# Altium footprint library ORWH-SH-112D,N000-TERelay.PcbLib: 1 footprints
Each footprint in its own frame and in the unit in brackets; x right, y up, seen from the top. Pads: shape width x height; smd on the part's side, far side on the other; paste and mask are expansions set on the pad; w line width, h text height; cw(c..) or ccw(c..) is an arc to the next point about the centre after c.
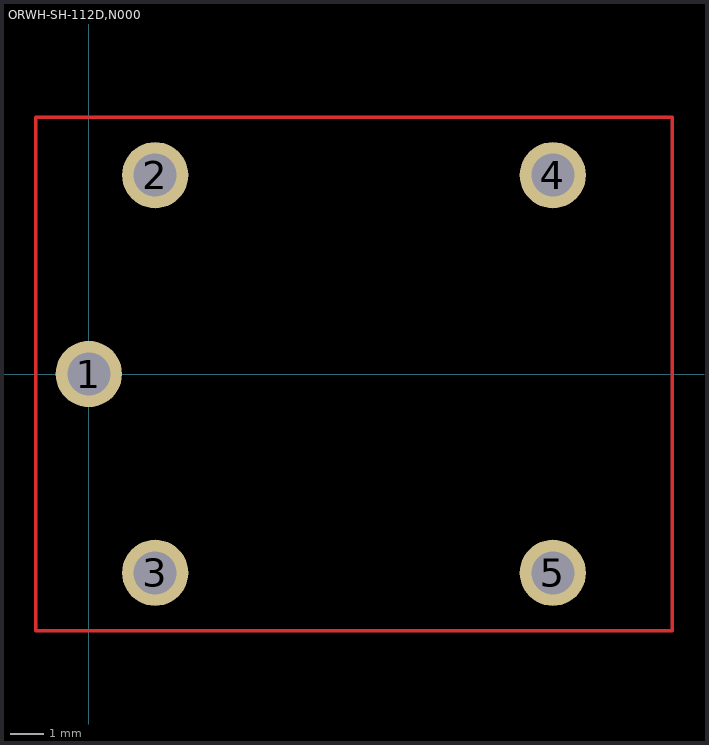
[diagram p0: the footprint, top view; thin cyan lines are the x and y axes]

## ORWH-SH-112D,N000 [mm] "TE Relay, ORWH-SH-112D,N000"
height 15
pads (5):
  round 2 hole 1.3: 1(0,0) 2(2,6) 3(2,-6) 4(14,6) 5(14,-6)
Top Layer:
  lines w0.1: -1.6,-7.75 -1.6,7.75 17.6,7.75 17.6,-7.75 -1.6,-7.75